# EAGLE library part ECV3-06-* (library m_connector)
ECV3-06-IDC 6-pin Castellated Board-Edge Connector Description The ECV3-06-IDC is a 6-pin Edge-Connect connector terminated in a 6-pin 0.1" pitch female IDC. It connects to the literal edge of the PCB using castellated holes, essentially eliminating the wasted real-estate needed by traditional JTAG programming and test connectors. Edge-Connect is an ideal solution for space-sensitive PCBs and modules that don't have room on the board for traditional connectors but still need a means of programming firmware and testing. ECV3 is the third generation in the Edge-Connect family and is NOT compatible with previous Edge-Connect versions. Features Zero component cost on the PCB No header required on target board Eliminates the cost of a connector on every board Connects to the literal edge of the PCB Springy gold-plated contacts mate with edge castellation PCB snaps directly onto the Edge-Connect Requires just one tiny locating hole Maximizes available PCB real-estate Low profile edge access ideal for stacked PCBs with no access headroom 1.27 mm castellation pitch Keyed connection Cannot be connected backwards due to keyed feature Broad debugger compatibility Segger J-LINK (SWD, cJTAG) ST-LINK/V2, ST-LINK V3 SET (SWD) PEmicro Multilink / Cyclone (SWD) Atmel AVRISP (SPI/PDI/debugWIRE) Xilinx Platform Cable, Digilent JTAG-HS2/HS3, Lattice HW-USBN-2B (JTAG) Device Information Page <https://www.tag-connect.com/product/ecv3-06-idc-6-pin-castellated-board-edge-connectors> Octopart Search <https://octopart.com/search?q=ECV3-06-IDC> Added 2026-03-20
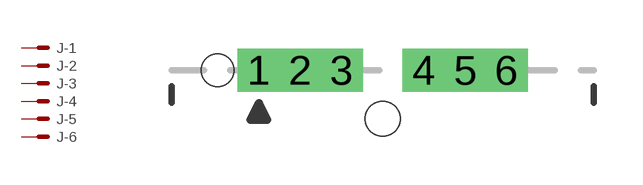
[diagram p20: symbol with the pads of EDGE-CONNECT_ECV3-06-IDC; footprint EDGE-CONNECT_ECV3-06-IDC]

Designator prefix J; gates -1=M -2=M -3=M -4=M -5=M -6=M

## ECV3-06- (MANUF: Tag-Connect; PARTNUM: ECV3-06-*)  [EDGE-CONNECT_ECV3-06-IDC]
1  -1:S  pas
2  -2:S  pas
3  -3:S  pas
4  -4:S  pas
5  -5:S  pas
6  -6:S  pas

## Footprint EDGE-CONNECT_ECV3-06-IDC (pad centres in mm)
ECV3-06-IDC 6-pin Castellated Board-Edge Connector Description The ECV3-06-IDC is a 6-pin Edge-Connect connector terminated in a 6-pin 0.1" pitch female IDC. It connects to the physical edge of the PCB using castellated holes, essentially eliminating the wasted real-estate needed by traditional JTAG programming and test connectors. Edge-Connect is an ideal solution for space-sensitive PCBs and modules that don't have room on the board for traditional connectors but still need a means of programming firmware and testing. ECV3 is the third generation in the Edge-Connect family and is NOT compatible with previous Edge-Connect versions. Features Zero component cost on the PCB No header required on target board Eliminates the cost of a connector on every board Connects to the literal edge of the PCB Springy gold-plated contacts mate with edge castellation PCB snaps directly onto the Edge-Connect Requires just one tiny locating hole Maximizes available PCB real-estate Low profile edge access ideal for stacked PCBs with no access headroom 1.27 mm castellation pitch Keyed connection Cannot be connected backwards due to keyed feature Broad debugger compatibility Segger J-LINK (SWD, cJTAG) ST-LINK/V2, ST-LINK V3 SET (SWD) PEmicro Multilink / Cyclone (SWD) Atmel AVRISP (SPI/PDI/debugWIRE) Xilinx Platform Cable, Digilent JTAG-HS2/HS3, Lattice HW-USBN-2B (JTAG) Device Information Page <https://www.tag-connect.com/product/ecv3-06-idc-6-pin-castellated-board-edge-connectors> Octopart Search <https://octopart.com/search?q=ECV3-06-IDC> Added 2026-03-20
drill 0.81 pad 1.016 square: 1 -3.81,0; 2 -2.54,0; 3 -1.27,0; 4 1.27,0; 5 2.54,0; 6 3.81,0
hole 1.06 at 0,-1.5
hole 1 at -5.08,0